# EAGLE library part MK22FNXXXV (library Freescale)
Freescale Kinetis K22 ARM Cortex-M4 Microcontroller
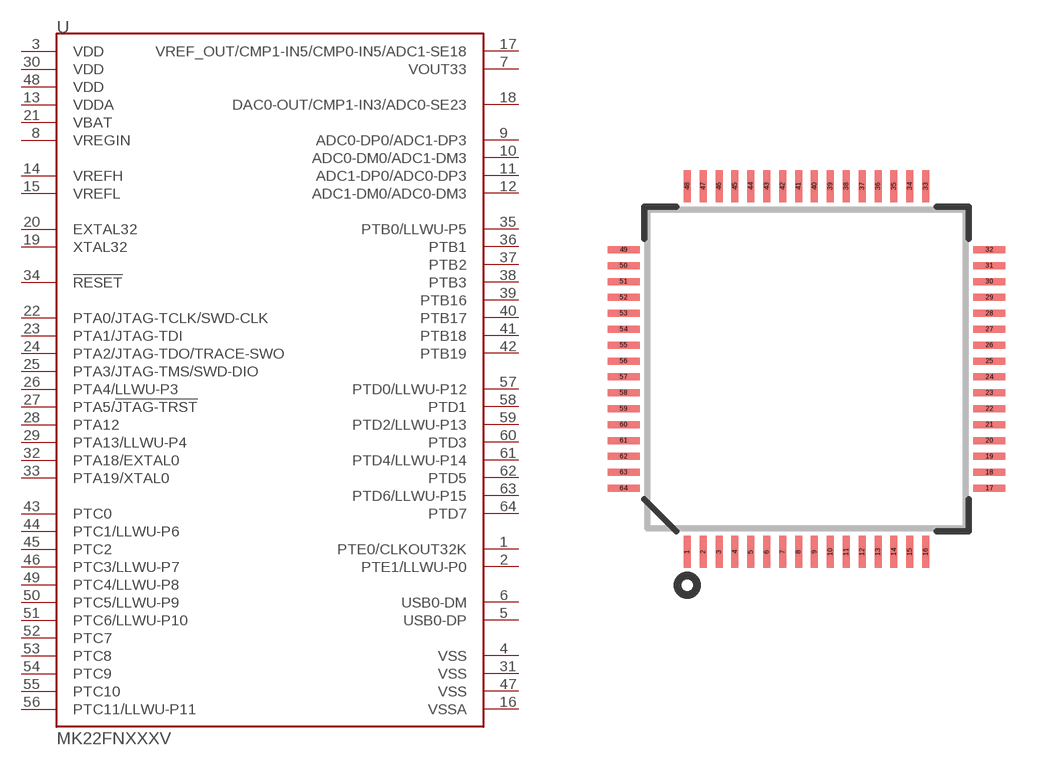
[diagram p0: symbol with the pads of TQFP64; footprint TQFP64]

Designator prefix -

## MK22FNXXXVLHXX (PACKAGE: LQFP64)  [TQFP64]
1  PTE0/CLKOUT32K
2  PTE1/LLWU-P0
3  VDD  pwr
4  VSS  pwr
5  USB0-DP
6  USB0-DM
7  VOUT33
8  VREGIN  pwr
9  ADC0-DP0/ADC1-DP3
10  ADC0-DM0/ADC1-DM3
11  ADC1-DP0/ADC0-DP3
12  ADC1-DM0/ADC0-DM3
13  VDDA  pwr
14  VREFH  in
15  VREFL  in
16  VSSA  pwr
17  VREF_OUT/CMP1-IN5/CMP0-IN5/ADC1-SE18
18  DAC0-OUT/CMP1-IN3/ADC0-SE23
19  XTAL32  oc
20  EXTAL32  oc
21  VBAT  pwr
22  PTA0/JTAG-TCLK/SWD-CLK
23  PTA1/JTAG-TDI
24  PTA2/JTAG-TDO/TRACE-SWO
25  PTA3/JTAG-TMS/SWD-DIO
26  PTA4/LLWU-P3
27  PTA5/!JTAG-TRST
28  PTA12
29  PTA13/LLWU-P4
30  VDD  pwr
31  VSS  pwr
32  PTA18/EXTAL0
33  PTA19/XTAL0
34  !RESET  in
35  PTB0/LLWU-P5
36  PTB1
37  PTB2
38  PTB3
39  PTB16
40  PTB17
41  PTB18
42  PTB19
43  PTC0
44  PTC1/LLWU-P6
45  PTC2
46  PTC3/LLWU-P7
47  VSS  pwr
48  VDD  pwr
49  PTC4/LLWU-P8
50  PTC5/LLWU-P9
51  PTC6/LLWU-P10
52  PTC7
53  PTC8
54  PTC9
55  PTC10
56  PTC11/LLWU-P11
57  PTD0/LLWU-P12
58  PTD1
59  PTD2/LLWU-P13
60  PTD3
61  PTD4/LLWU-P14
62  PTD5
63  PTD6/LLWU-P15
64  PTD7

## Footprint TQFP64 (pad centres in mm)
64-Lead TQFP Plastic Thin Quad Flatpack - 10x10x1mm Body, 2mmFP
smd 0.22 x 1: 1 -3.75,-5.75; 2 -3.25,-5.75; 3 -2.75,-5.75; 4 -2.25,-5.75; 5 -1.75,-5.75; 6 -1.25,-5.75; 7 -0.75,-5.75; 8 -0.25,-5.75; 9 0.25,-5.75; 10 0.75,-5.75; 11 1.25,-5.75; 12 1.75,-5.75; 13 2.25,-5.75; 14 2.75,-5.75; 15 3.25,-5.75; 16 3.75,-5.75; 33 3.75,5.75; 34 3.25,5.75; 35 2.75,5.75; 36 2.25,5.75; 37 1.75,5.75; 38 1.25,5.75; 39 0.75,5.75; 40 0.25,5.75; 41 -0.25,5.75; 42 -0.75,5.75; 43 -1.25,5.75; 44 -1.75,5.75; 45 -2.25,5.75; 46 -2.75,5.75; 47 -3.25,5.75; 48 -3.75,5.75
smd 1 x 0.22: 17 5.75,-3.75; 18 5.75,-3.25; 19 5.75,-2.75; 20 5.75,-2.25; 21 5.75,-1.75; 22 5.75,-1.25; 23 5.75,-0.75; 24 5.75,-0.25; 25 5.75,0.25; 26 5.75,0.75; 27 5.75,1.25; 28 5.75,1.75; 29 5.75,2.25; 30 5.75,2.75; 31 5.75,3.25; 32 5.75,3.75; 49 -5.75,3.75; 50 -5.75,3.25; 51 -5.75,2.75; 52 -5.75,2.25; 53 -5.75,1.75; 54 -5.75,1.25; 55 -5.75,0.75; 56 -5.75,0.25; 57 -5.75,-0.25; 58 -5.75,-0.75; 59 -5.75,-1.25; 60 -5.75,-1.75; 61 -5.75,-2.25; 62 -5.75,-2.75; 63 -5.75,-3.25; 64 -5.75,-3.75